# EAGLE library part INA190A1IRSWT (library Sensor)
IC CURR SENSE 1 CIRCUIT 10UQFN Manufacturer's datasheet <http://www.ti.com/lit/ds/symlink/ina190.pdf>
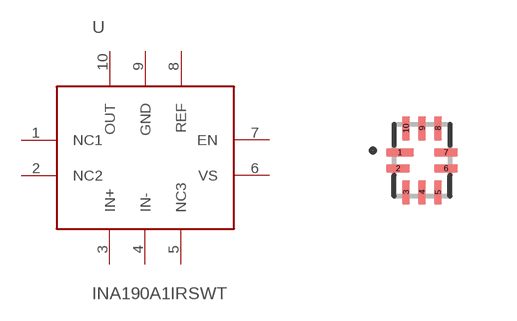
[diagram p26: symbol with the pads of INA190A1IRSWT; footprint INA190A1IRSWT]

Designator prefix U

## INA190A1IRSWT (CREATED_BY: PCBLayout.com; DIGIKEY_PARTNO: 296-52296-2-ND; MANUFACTURER: Texas Instruments; MPN: INA190A1IRSWT; PACKAGE: QFN-10)  [INA190A1IRSWT]
1  NC1  nc
2  NC2  nc
3  IN+  in
4  IN-  in
5  NC3  nc
6  VS
7  EN  in
8  REF  in
9  GND  pwr
10  OUT  out

## Footprint INA190A1IRSWT (pad centres in mm)
smd 0.7 x 0.2: 1 -0.55,0.2
smd 0.6 x 0.2: 2 -0.6,-0.2; 6 0.6,-0.2; 7 0.6,0.2
smd 0.2 x 0.6: 3 -0.4,-0.8; 4 0,-0.8; 5 0.4,-0.8; 8 0.4,0.8; 9 0,0.8; 10 -0.4,0.8